# Altium schematic symbol library LCD_DISPLAY_0.Schlib: 1 symbol
Pins are listed as number, name and electrical type; pins without a type are passive.

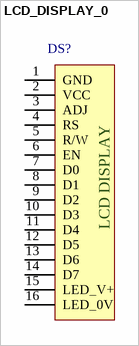
[diagram p0: symbol LCD_DISPLAY_0]

## LCD_DISPLAY_0
designator DS?  (value not drawn)
LCD Character Display, 16-pin interface
pins: 1 GND (power), 2 VCC (power), 3 ADJ (power), 4 RS (power), 5 R/W (power), 6 EN (power), 7 D0 (power), 8 D1 (power), 9 D2 (power), 10 D3 (power), 11 D4 (power), 12 D5 (power), 13 D6 (power), 14 D7 (power), 15 LED_V+ (power), 16 LED_0V (power)
text: LCD DISPLAY